# Altium footprint library CA_THW25P50_H60.PcbLib: 1 footprints
Each footprint in its own frame and in the unit in brackets; x right, y up, seen from the top. Pads: shape width x height; smd on the part's side, far side on the other; paste and mask are expansions set on the pad; w line width, h text height; cw(c..) or ccw(c..) is an arc to the next point about the centre after c.
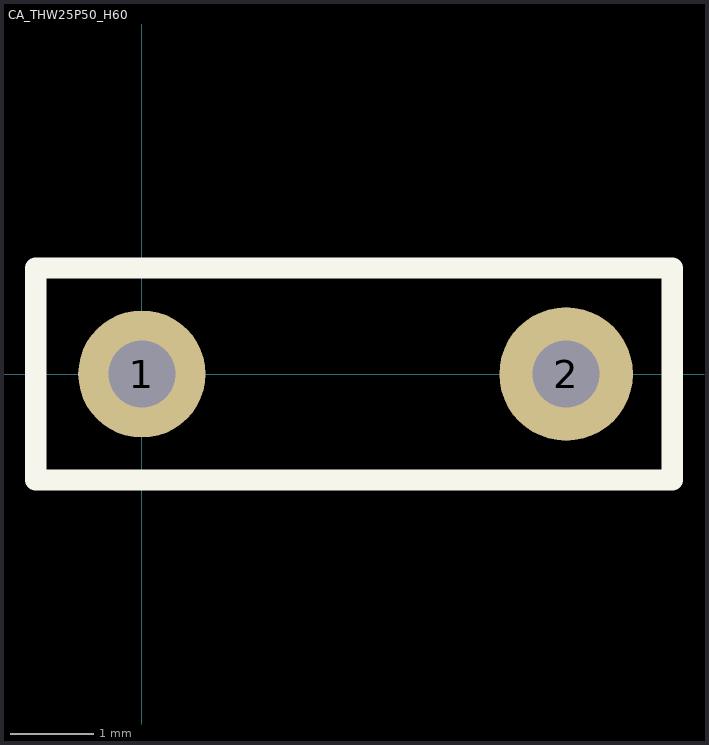
[diagram p0: the footprint, top view; thin cyan lines are the x and y axes]

## CA_THW25P50_H60 [mm] "Capacitor, 5mm pin spacing"
pads (2):
  round 1.524 hole 0.8: 1(0,0)
  round 1.6 hole 0.8: 2(5.08,0)
Top Overlay:
  lines w0.254: -1.27,-1.27 -1.27,1.27 6.35,1.27 6.35,-1.27 -1.27,-1.27
3D body: height 6.5, standoff -2.5, extent -1.063,-1.213 6.137,1.287